# EAGLE library part IFX9201BREAKOUT (library ifx9201breakout)
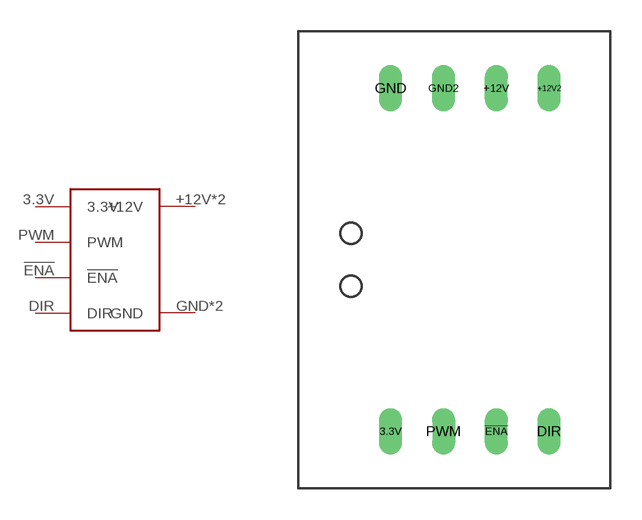
[diagram p0: symbol with the pads of IFX9201BREAKOUT; footprint IFX9201BREAKOUT]

Designator prefix -

## IFX9201BREAKOUT  [IFX9201BREAKOUT]
3.3V  3.3V
!ENA  !ENA
+12V  +12V
+12V2  +12V
DIR  DIR
GND  GND
GND2  GND
PWM  PWM

## Footprint IFX9201BREAKOUT (pad centres in mm)
drill 0.6 long: 3.3V -3.81,-8.255; !ENA 1.27,-8.255; +12V 1.27,8.255; +12V2 3.81,8.255; DIR 3.81,-8.255; GND -3.81,8.255; GND2 -1.27,8.255; PWM -1.27,-8.255